# Altium schematic symbol library D Varactor.Schlib: 1 symbol
Pins are listed as number, name and electrical type; pins without a type are passive.

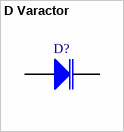
[diagram p0: symbol D Varactor]

## D Varactor
designator D?
Variable Capacitance Diode
pins: 1 K, 3 A